# Altium integrated library PIR.IntLib: 1 symbol
Pins are listed as number, name and electrical type; pins without a type are passive.

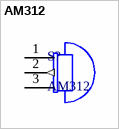
[diagram p0: symbol AM312]

## AM312
designator S?
AM312  Pyroelectric Infrared PIR Motion Sensor; ComponentLink1Description: Purchase link; ComponentLink1URL: https://detail.1688.com/offer/576896369248.html?spm=a26352.13672862.offerlist.7.3b3c6d92i1jaCv; MPN: AM312
footprint AM312 PIR Sensor Module (2.54mm)
pins: 1 VCC (power), 2 VOUT (out), 3 GND (power)